# Altium integrated library Silicon Labs USB MCUs.IntLib: 49 symbols (part 2 of 3)
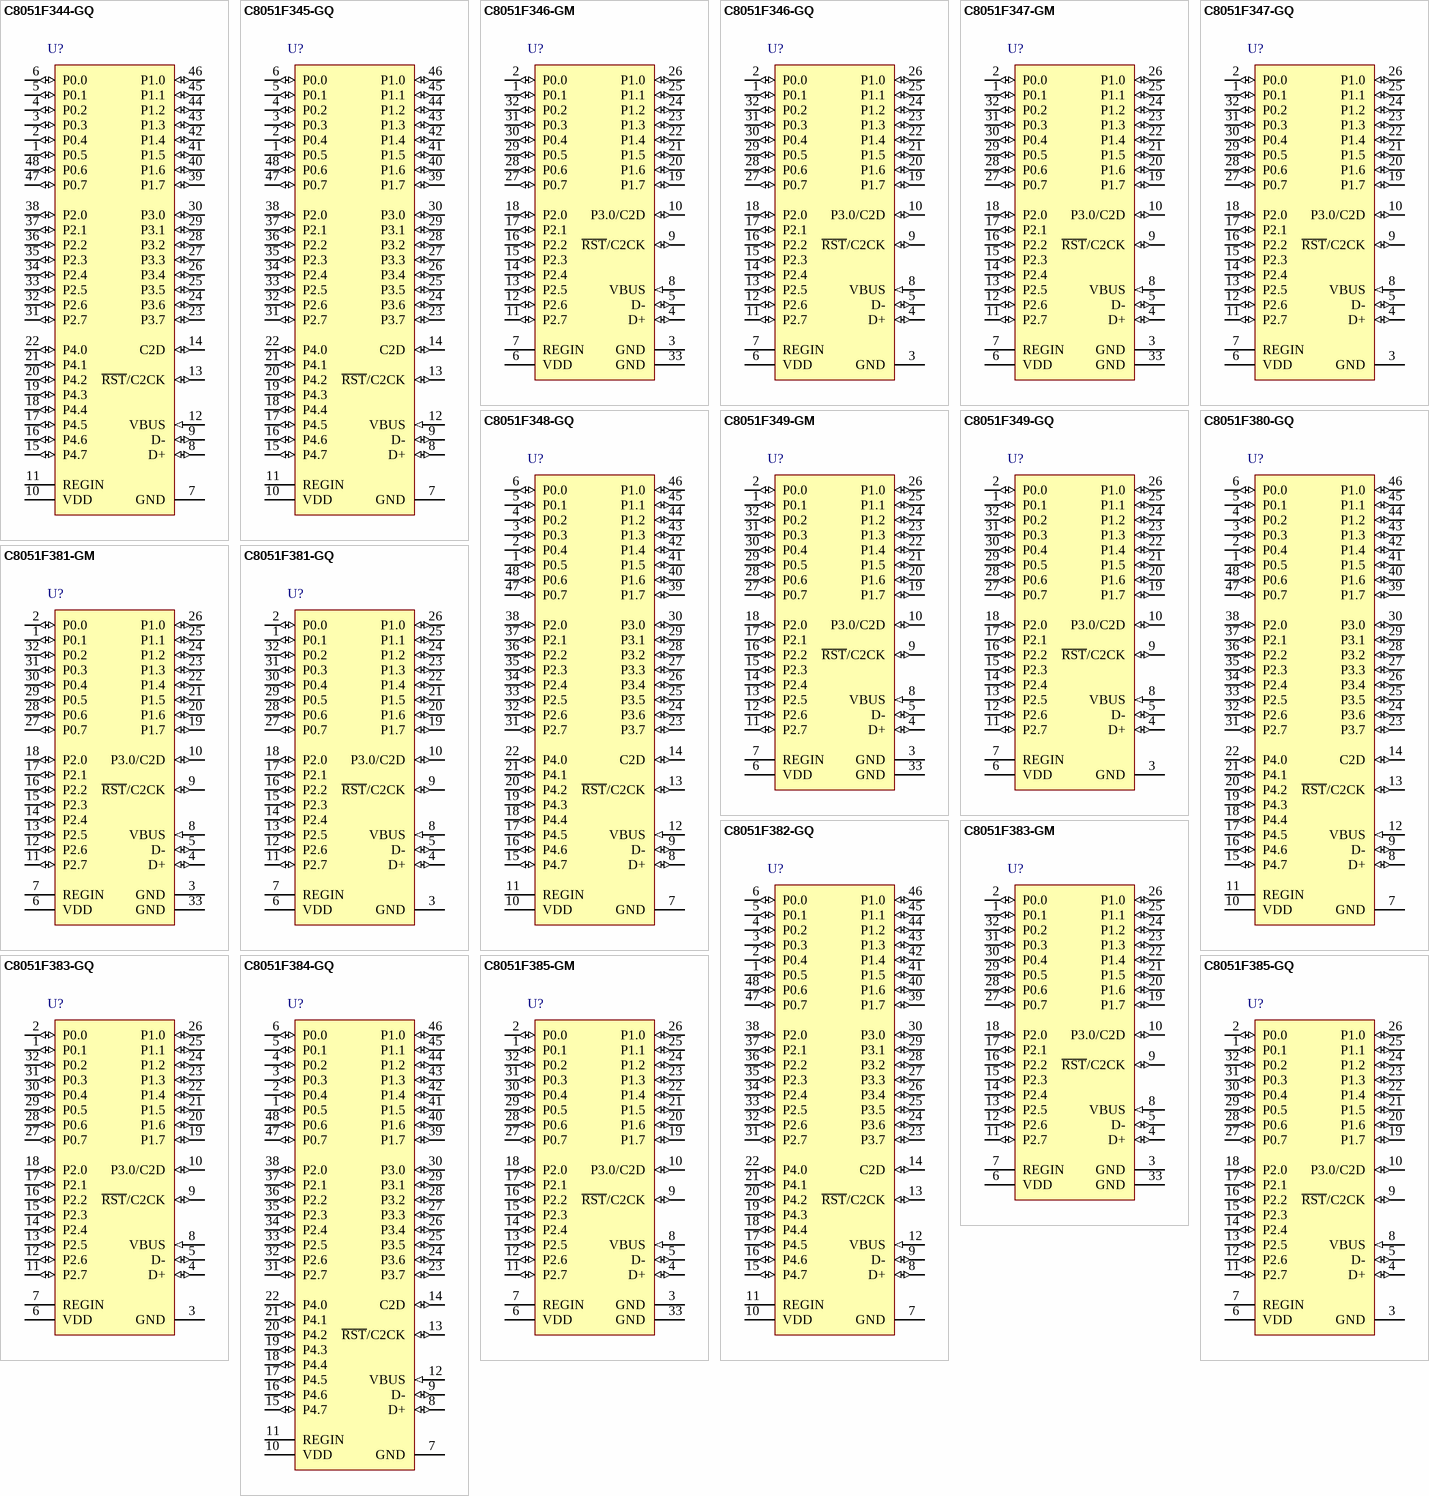
[diagram p3: symbols C8051F344-GQ to C8051F385-GQ]

## C8051F346-GM
designator U?
Full Speed USB Flash MCU Family, 25 MHz, 4.25 kB RAM, 64 kB Flash, -40 to 85 degC, 32-pin QFN; Manufacturer: Silicon Labs; PartNumber: C8051F346-GM; ADC 1: 10-bit, 21-ch., 200 ksps; AEC-Q100: FALSE; Comparators: 2; Debug Interface: C2; Dig I/O Pins: 25; Flash: 64 kB; Internal Osc. Accuracy: +/-0.25%; MCU Core: 8051; PCA Channels: 5; RAM: 4.25 kB; Temp Sensor: TRUE; Timers (16-bit): 4; Sub-Family: USB MCUs; DatasheetVersion: Rev. 1.4; PackageReference: QFN-32; PackageDescription: 32-Pin Quad-Flat No-Leads Package, Body 5 x 5 mm, Pitch 0.5 mm; Supplier 1: Digi-Key; Supplier Part Number 1: 336-1347-5-ND; Supplier 2: Mouser; Supplier Part Number 2: 634-C8051F346-GM; MHz: 25; Mounting Technology: Surface Mount; Code_JEDEC: MO-220; Code_IPC: J-STD-020; ComponentLink1Description: Manufacturer URL; ComponentLink1URL: http://www.silabs.com/; ComponentLink2Description: Datasheet; ComponentLink2URL: http://www.silabs.com/Support Documents/TechnicalDocs/C8051F34x.pdf; ComponentLink3Description: Package Specification; ComponentLink3URL: http://www.silabs.com/Support%20Documents/TechnicalDocs/C8051F50x-51x.pdf
footprint SLAB-QFN-32-3300x3300TP_N (QFN, 32-Leads, Body 5x5mm, Pitch 0.5mm, Thermal Pad 3.3x3.3mm, IPC Medium Density)
footprint SLAB-QFN-32-3300x3300TP_L (QFN, 32-Leads, Body 5x5mm, Pitch 0.5mm, Thermal Pad 3.3x3.3mm, IPC High Density)
footprint SLAB-QFN-32-3300x3300TP_M (QFN, 32-Leads, Body 5x5mm, Pitch 0.5mm, Thermal Pad 3.3x3.3mm, IPC Low Density)
pins: 1 P0.1 (io) "Port 0.1.", 2 P0.0 (io) "Port 0.0.", 3 GND (power) "Ground.", 4 D+ (io) "USB D+.", 5 D- (io) "USB D-", 6 VDD (power) "2.7-3.6 V Power Supply Voltage Input. 3.3 V Voltage Regulator Output.", 7 REGIN (power) "5 V Regulator Input. This pin is the input to the on-chip  voltage regulator.", 8 VBUS (in) "VBUS Sense Input. This pin should be connected to the VBUS signal of a USB network. A 5 V signal on this pin indicates a USB network connection.", 9 ~{RST}/C2CK (io), 10 P3.0/C2D (io), 11 P2.7 (io) "Port 2.7.", 12 P2.6 (io) "Port 2.6.", 13 P2.5 (io) "Port 2.5.", 14 P2.4 (io) "Port 2.4.", 15 P2.3 (io) "Port 2.3.", 16 P2.2 (io) "Port 2.2.", 17 P2.1 (io) "Port 2.1.", 18 P2.0 (io) "Port 2.0.", 19 P1.7 (io) "Port 1.7.", 20 P1.6 (io) "Port 1.6.", 21 P1.5 (io) "Port 1.5.", 22 P1.4 (io) "Port 1.4.", 23 P1.3 (io) "Port 1.3.", 24 P1.2 (io) "Port 1.2.", 25 P1.1 (io) "Port 1.1.", 26 P1.0 (io) "Port 1.0.", 27 P0.7 (io) "Port 0.7.", 28 P0.6 (io) "Port 0.6.", 29 P0.5 (io) "Port 0.5.", 30 P0.4 (io) "Port 0.4.", 31 P0.3 (io) "Port 0.3.", 32 P0.2 (io) "Port 0.2.", 33 GND (power)

## C8051F346-GQ
designator U?
Full Speed USB Flash MCU Family, 25 MHz, 4.25 kB RAM, 64 kB Flash, -40 to 85 degC, 32-pin QFP; Manufacturer: Silicon Labs; PartNumber: C8051F346-GQ; ADC 1: 10-bit, 21-ch., 200 ksps; AEC-Q100: FALSE; Comparators: 2; Debug Interface: C2; Dig I/O Pins: 25; Flash: 64 kB; Internal Osc. Accuracy: +/-0.25%; MCU Core: 8051; PCA Channels: 5; RAM: 4.25 kB; Temp Sensor: TRUE; Timers (16-bit): 4; Sub-Family: USB MCUs; DatasheetVersion: Rev. 1.4; PackageReference: LQFP-32; PackageDescription: 32-Pin Low-Profile Quad Flat Pack, Body 7 x 7 mm, Pitch 0.8 mm; Supplier 1: Digi-Key; Supplier Part Number 1: 336-1304-ND; Supplier 2: Farnell; Supplier Part Number 2: 1186936; Supplier 3: Newark; Supplier Part Number 3: 96K8399; Supplier 4: Mouser; Supplier Part Number 4: 634-C8051F346-GQ; MHz: 25; Mounting Technology: Surface Mount; Code_JEDEC: MS-026; Code_IPC: J-STD-020; ComponentLink1Description: Manufacturer URL; ComponentLink1URL: http://www.silabs.com/; ComponentLink2Description: Datasheet; ComponentLink2URL: http://www.silabs.com/Support Documents/TechnicalDocs/C8051F34x.pdf; ComponentLink3Description: Package Specification; ComponentLink3URL: http://www.silabs.com/Support%20Documents/TechnicalDocs/C8051F38x.pdf
footprint SLAB-LQFP-32_N (QFP, 32-Leads, Body 7x7mm, Pitch 0.8mm, IPC Medium Density)
footprint SLAB-LQFP-32_L (QFP, 32-Leads, Body 7x7mm, Pitch 0.8mm, IPC High Density)
footprint SLAB-LQFP-32_M (QFP, 32-Leads, Body 7x7mm, Pitch 0.8mm, IPC Low Density)
pins: 1 P0.1 (io) "Port 0.1", 2 P0.0 (io) "Port 0.0. See Section 15 for a complete description of Port 0", 3 GND (power) "Ground.", 4 D+ (io) "USB D+.", 5 D- (io) "USB D-.", 6 VDD (power) "2.7-3.6 V Power Supply Voltage Input. 3.3 V Voltage Regulator Output. See Section 8.", 7 REGIN (power) "5 V Regulator Input. This pin is the input to the on-chip voltage regulator.", 8 VBUS (in) "VBUS Sense Input. This pin should be connected to the VBUS signal of a USB network. A 5 V signal on this pin indicates a USB network connection.", 9 ~{RST}/C2CK (io), 10 P3.0/C2D (io), 11 P2.7 (io) "Port 2.7.", 12 P2.6 (io) "Port 2.6.", 13 P2.5 (io) "Port 2.5.", 14 P2.4 (io) "Port 2.4.", 15 P2.3 (io) "Port 2.3.", 16 P2.2 (io) "Port 2.2.", 17 P2.1 (io) "Port 2.1.", 18 P2.0 (io) "Port 2.0. See Section 15 for a complete description of Port 2.", 19 P1.7 (io) "Port 1.7.", 20 P1.6 (io) "Port 1.6.", 21 P1.5 (io) "Port 1.5.", 22 P1.4 (io) "Port 1.4.", 23 P1.3 (io) "Port 1.3.", 24 P1.2 (io) "Port 1.2.", 25 P1.1 (io) "Port 1.1.", 26 P1.0 (io) "Port 1.0. See Section 15 for a complete description of Port 3.", 27 P0.7 (io) "Port 0.7", 28 P0.6 (io) "Port 0.6", 29 P0.5 (io) "Port 0.5", 30 P0.4 (io) "Port 0.4", 31 P0.3 (io) "Port 0.3", 32 P0.2 (io) "Port 0.2"

## C8051F347-GM
designator U?
Full Speed USB Flash MCU Family, 25 MHz, 2.25 kB RAM, 32 kB Flash, -40 to 85 degC, 32-pin QFN; Manufacturer: Silicon Labs; PartNumber: C8051F347-GM; ADC 1: 10-bit, 21-ch., 200 ksps; AEC-Q100: FALSE; Comparators: 2; Debug Interface: C2; Dig I/O Pins: 25; Flash: 32 kB; Internal Osc. Accuracy: +/-0.25%; MCU Core: 8051; PCA Channels: 5; RAM: 2.25 kB; Temp Sensor: TRUE; Timers (16-bit): 4; Sub-Family: USB MCUs; DatasheetVersion: Rev. 1.4; PackageReference: QFN-32; PackageDescription: 32-Pin Quad-Flat No-Leads Package, Body 5 x 5 mm, Pitch 0.5 mm; Supplier 1: Digi-Key; Supplier Part Number 1: 336-1348-5-ND; Supplier 2: Mouser; Supplier Part Number 2: 634-C8051F347-GM; MHz: 25; Mounting Technology: Surface Mount; Code_JEDEC: MO-220; Code_IPC: J-STD-020; ComponentLink1Description: Manufacturer URL; ComponentLink1URL: http://www.silabs.com/; ComponentLink2Description: Datasheet; ComponentLink2URL: http://www.silabs.com/Support Documents/TechnicalDocs/C8051F34x.pdf; ComponentLink3Description: Package Specification; ComponentLink3URL: http://www.silabs.com/Support%20Documents/TechnicalDocs/C8051F50x-51x.pdf
footprint SLAB-QFN-32-3300x3300TP_N (QFN, 32-Leads, Body 5x5mm, Pitch 0.5mm, Thermal Pad 3.3x3.3mm, IPC Medium Density)
footprint SLAB-QFN-32-3300x3300TP_L (QFN, 32-Leads, Body 5x5mm, Pitch 0.5mm, Thermal Pad 3.3x3.3mm, IPC High Density)
footprint SLAB-QFN-32-3300x3300TP_M (QFN, 32-Leads, Body 5x5mm, Pitch 0.5mm, Thermal Pad 3.3x3.3mm, IPC Low Density)
pins: 1 P0.1 (io) "Port 0.1.", 2 P0.0 (io) "Port 0.0.", 3 GND (power) "Ground.", 4 D+ (io) "USB D+.", 5 D- (io) "USB D-", 6 VDD (power) "2.7-3.6 V Power Supply Voltage Input. 3.3 V Voltage Regulator Output.", 7 REGIN (power) "5 V Regulator Input. This pin is the input to the on-chip  voltage regulator.", 8 VBUS (in) "VBUS Sense Input. This pin should be connected to the VBUS signal of a USB network. A 5 V signal on this pin indicates a USB network connection.", 9 ~{RST}/C2CK (io), 10 P3.0/C2D (io), 11 P2.7 (io) "Port 2.7.", 12 P2.6 (io) "Port 2.6.", 13 P2.5 (io) "Port 2.5.", 14 P2.4 (io) "Port 2.4.", 15 P2.3 (io) "Port 2.3.", 16 P2.2 (io) "Port 2.2.", 17 P2.1 (io) "Port 2.1.", 18 P2.0 (io) "Port 2.0.", 19 P1.7 (io) "Port 1.7.", 20 P1.6 (io) "Port 1.6.", 21 P1.5 (io) "Port 1.5.", 22 P1.4 (io) "Port 1.4.", 23 P1.3 (io) "Port 1.3.", 24 P1.2 (io) "Port 1.2.", 25 P1.1 (io) "Port 1.1.", 26 P1.0 (io) "Port 1.0.", 27 P0.7 (io) "Port 0.7.", 28 P0.6 (io) "Port 0.6.", 29 P0.5 (io) "Port 0.5.", 30 P0.4 (io) "Port 0.4.", 31 P0.3 (io) "Port 0.3.", 32 P0.2 (io) "Port 0.2.", 33 GND (power)

## C8051F347-GQ
designator U?
Full Speed USB Flash MCU Family, 25 MHz, 2.25 kB RAM, 32 kB Flash, -40 to 85 degC, 32-pin QFP; Manufacturer: Silicon Labs; PartNumber: C8051F347-GQ; ADC 1: 10-bit, 21-ch., 200 ksps; AEC-Q100: FALSE; Comparators: 2; Debug Interface: C2; Dig I/O Pins: 25; Flash: 32 kB; Internal Osc. Accuracy: +/-0.25%; MCU Core: 8051; PCA Channels: 5; RAM: 2.25 kB; Temp Sensor: TRUE; Timers (16-bit): 4; Sub-Family: USB MCUs; DatasheetVersion: Rev. 1.4; PackageReference: LQFP-32; PackageDescription: 32-Pin Low-Profile Quad Flat Pack, Body 7 x 7 mm, Pitch 0.8 mm; Supplier 1: Digi-Key; Supplier Part Number 1: 336-1305-ND; Supplier 2: Farnell; Supplier Part Number 2: 1186937; Supplier 3: Mouser; Supplier Part Number 3: 634-C8051F347-GQ; MHz: 25; Mounting Technology: Surface Mount; Code_JEDEC: MS-026; Code_IPC: J-STD-020; ComponentLink1Description: Manufacturer URL; ComponentLink1URL: http://www.silabs.com/; ComponentLink2Description: Datasheet; ComponentLink2URL: http://www.silabs.com/Support Documents/TechnicalDocs/C8051F34x.pdf; ComponentLink3Description: Package Specification; ComponentLink3URL: http://www.silabs.com/Support%20Documents/TechnicalDocs/C8051F38x.pdf
footprint SLAB-LQFP-32_N (QFP, 32-Leads, Body 7x7mm, Pitch 0.8mm, IPC Medium Density)
footprint SLAB-LQFP-32_L (QFP, 32-Leads, Body 7x7mm, Pitch 0.8mm, IPC High Density)
footprint SLAB-LQFP-32_M (QFP, 32-Leads, Body 7x7mm, Pitch 0.8mm, IPC Low Density)
pins: 1 P0.1 (io) "Port 0.1", 2 P0.0 (io) "Port 0.0. See Section 15 for a complete description of Port 0", 3 GND (power) "Ground.", 4 D+ (io) "USB D+.", 5 D- (io) "USB D-.", 6 VDD (power) "2.7-3.6 V Power Supply Voltage Input. 3.3 V Voltage Regulator Output. See Section 8.", 7 REGIN (power) "5 V Regulator Input. This pin is the input to the on-chip voltage regulator.", 8 VBUS (in) "VBUS Sense Input. This pin should be connected to the VBUS signal of a USB network. A 5 V signal on this pin indicates a USB network connection.", 9 ~{RST}/C2CK (io), 10 P3.0/C2D (io), 11 P2.7 (io) "Port 2.7.", 12 P2.6 (io) "Port 2.6.", 13 P2.5 (io) "Port 2.5.", 14 P2.4 (io) "Port 2.4.", 15 P2.3 (io) "Port 2.3.", 16 P2.2 (io) "Port 2.2.", 17 P2.1 (io) "Port 2.1.", 18 P2.0 (io) "Port 2.0. See Section 15 for a complete description of Port 2.", 19 P1.7 (io) "Port 1.7.", 20 P1.6 (io) "Port 1.6.", 21 P1.5 (io) "Port 1.5.", 22 P1.4 (io) "Port 1.4.", 23 P1.3 (io) "Port 1.3.", 24 P1.2 (io) "Port 1.2.", 25 P1.1 (io) "Port 1.1.", 26 P1.0 (io) "Port 1.0. See Section 15 for a complete description of Port 3.", 27 P0.7 (io) "Port 0.7", 28 P0.6 (io) "Port 0.6", 29 P0.5 (io) "Port 0.5", 30 P0.4 (io) "Port 0.4", 31 P0.3 (io) "Port 0.3", 32 P0.2 (io) "Port 0.2"

## C8051F348-GQ
designator U?
Full Speed USB Flash MCU Family, 25 MHz, 2.25 kB RAM, 32 kB Flash, -40 to 85 degC, 48-pin QFP; Manufacturer: Silicon Labs; PartNumber: C8051F348-GQ; AEC-Q100: FALSE; Comparators: 2; Debug Interface: C2; Dig I/O Pins: 40; Flash: 32 kB; Internal Osc. Accuracy: +/-0.25%; MCU Core: 8051; MHz: 25; PCA Channels: 5; RAM: 2.25 kB; Timers (16-bit): 4; Sub-Family: USB MCUs; DatasheetVersion: Rev. 1.4; PackageReference: TQFP-48; PackageDescription: 48-pin TQFP, Body 7 x 7 mm, Pitch 0.5 mm; Supplier 1: Digi-Key; Supplier Part Number 1: 336-1508-ND; Supplier 2: Mouser; Supplier Part Number 2: 634-C8051F348-GQ; Temp Sensor: FALSE; Mounting Technology: Surface Mount; Code_JEDEC: MS-026; Code_IPC: J-STD-020; ComponentLink1Description: Manufacturer URL; ComponentLink1URL: http://www.silabs.com/; ComponentLink2Description: Datasheet; ComponentLink2URL: http://www.silabs.com/Support Documents/TechnicalDocs/C8051F34x.pdf; ComponentLink3Description: Package Specification; ComponentLink3URL: http://www.silabs.com/Support%20Documents/TechnicalDocs/CP2200.pdf
footprint SLAB-TQFP-48_N (QFP, 48-Leads, Body 7x7mm, Pitch 0.5mm, IPC Medium Density)
footprint SLAB-TQFP-48_L (QFP, 48-Leads, Body 7x7mm, Pitch 0.5mm, IPC High Density)
footprint SLAB-TQFP-48_M (QFP, 48-Leads, Body 7x7mm, Pitch 0.5mm, IPC Low Density)
pins: 1 P0.5 (io) "Port 0.5.", 2 P0.4 (io) "Port 0.4.", 3 P0.3 (io) "Port 0.3.", 4 P0.2 (io) "Port 0.2.", 5 P0.1 (io) "Port 0.1", 6 P0.0 (io) "Port 0.0.", 7 GND (power) "Ground.", 8 D+ (io) "USB D+.", 9 D- (io) "USB D-.", 10 VDD (power) "2.7-3.6 V Power Supply Voltage Input. 3.3 V Voltage Regulator Output.", 11 REGIN (power) "5 V Regulator Input. This pin is the input to the on-chip voltage regulator.", 12 VBUS (in) "VBUS Sense Input. This pin should be connected to the VBUS signal of a USB network. A 5 V signal on this pin indicates a USB network connection.", 13 ~{RST}/C2CK (io), 14 C2D (io) "Bi-directional data signal for the C2 Debug Interface.", 15 P4.7 (io) "Port 4.7.", 16 P4.6 (io) "Port 4.6.", 17 P4.5 (io) "Port 4.5.", 18 P4.4 (io) "Port 4.4.", 19 P4.3 (io) "Port 4.3.", 20 P4.2 (io) "Port 4.2.", 21 P4.1 (io) "Port 4.1.", 22 P4.0 (io) "Port 4.0.", 23 P3.7 (io) "Port 3.7.", 24 P3.6 (io) "Port 3.6.", 25 P3.5 (io) "Port 3.5.", 26 P3.4 (io) "Port 3.4.", 27 P3.3 (io) "Port 3.3.", 28 P3.2 (io) "Port 3.2.", 29 P3.1 (io) "Port 3.1.", 30 P3.0 (io) "Port 3.0.", 31 P2.7 (io) "Port 2.7.", 32 P2.6 (io) "Port 2.6.", 33 P2.5 (io) "Port 2.5.", 34 P2.4 (io) "Port 2.4.", 35 P2.3 (io) "Port 2.3.", 36 P2.2 (io) "Port 2.2.", 37 P2.1 (io) "Port 2.1.", 38 P2.0 (io) "Port 2.0.", 39 P1.7 (io) "Port 1.7.", 40 P1.6 (io) "Port 1.6.", 41 P1.5 (io) "Port 1.5.", 42 P1.4 (io) "Port 1.4.", 43 P1.3 (io) "Port 1.3.", 44 P1.2 (io) "Port 1.2.", 45 P1.1 (io) "Port 1.1.", 46 P1.0 (io) "Port 1.0.", 47 P0.7 (io) "Port 0.7.", 48 P0.6 (io) "Port 0.6."

## C8051F349-GM
designator U?
Full Speed USB Flash MCU Family, 25 MHz, 2.25 kB RAM, 32 kB Flash, -40 to 85 degC, 32-pin QFN; Manufacturer: Silicon Labs; PartNumber: C8051F349-GM; AEC-Q100: FALSE; Comparators: 2; Debug Interface: C2; Dig I/O Pins: 25; Flash: 32 kB; Internal Osc. Accuracy: +/-0.25%; MCU Core: 8051; PCA Channels: 5; RAM: 2.25 kB; Timers (16-bit): 4; Sub-Family: USB MCUs; DatasheetVersion: Rev. 1.4; PackageReference: QFN-32; PackageDescription: 32-Pin Quad-Flat No-Leads Package, Body 5 x 5 mm, Pitch 0.5 mm; Supplier 1: Digi-Key; Supplier Part Number 1: 336-1349-5-ND; Supplier 2: Mouser; Supplier Part Number 2: 634-C8051F349-GM; MHz: 25; Temp Sensor: FALSE; Mounting Technology: Surface Mount; Code_JEDEC: MO-220; Code_IPC: J-STD-020; ComponentLink1Description: Manufacturer URL; ComponentLink1URL: http://www.silabs.com/; ComponentLink2Description: Datasheet; ComponentLink2URL: http://www.silabs.com/Support Documents/TechnicalDocs/C8051F34x.pdf; ComponentLink3Description: Package Specification; ComponentLink3URL: http://www.silabs.com/Support%20Documents/TechnicalDocs/C8051F50x-51x.pdf
footprint SLAB-QFN-32-3300x3300TP_N (QFN, 32-Leads, Body 5x5mm, Pitch 0.5mm, Thermal Pad 3.3x3.3mm, IPC Medium Density)
footprint SLAB-QFN-32-3300x3300TP_L (QFN, 32-Leads, Body 5x5mm, Pitch 0.5mm, Thermal Pad 3.3x3.3mm, IPC High Density)
footprint SLAB-QFN-32-3300x3300TP_M (QFN, 32-Leads, Body 5x5mm, Pitch 0.5mm, Thermal Pad 3.3x3.3mm, IPC Low Density)
pins: 1 P0.1 (io) "Port 0.1.", 2 P0.0 (io) "Port 0.0.", 3 GND (power) "Ground.", 4 D+ (io) "USB D+.", 5 D- (io) "USB D-", 6 VDD (power) "2.7-3.6 V Power Supply Voltage Input. 3.3 V Voltage Regulator Output.", 7 REGIN (power) "5 V Regulator Input. This pin is the input to the on-chip  voltage regulator.", 8 VBUS (in) "VBUS Sense Input. This pin should be connected to the VBUS signal of a USB network. A 5 V signal on this pin indicates a USB network connection.", 9 ~{RST}/C2CK (io), 10 P3.0/C2D (io), 11 P2.7 (io) "Port 2.7.", 12 P2.6 (io) "Port 2.6.", 13 P2.5 (io) "Port 2.5.", 14 P2.4 (io) "Port 2.4.", 15 P2.3 (io) "Port 2.3.", 16 P2.2 (io) "Port 2.2.", 17 P2.1 (io) "Port 2.1.", 18 P2.0 (io) "Port 2.0.", 19 P1.7 (io) "Port 1.7.", 20 P1.6 (io) "Port 1.6.", 21 P1.5 (io) "Port 1.5.", 22 P1.4 (io) "Port 1.4.", 23 P1.3 (io) "Port 1.3.", 24 P1.2 (io) "Port 1.2.", 25 P1.1 (io) "Port 1.1.", 26 P1.0 (io) "Port 1.0.", 27 P0.7 (io) "Port 0.7.", 28 P0.6 (io) "Port 0.6.", 29 P0.5 (io) "Port 0.5.", 30 P0.4 (io) "Port 0.4.", 31 P0.3 (io) "Port 0.3.", 32 P0.2 (io) "Port 0.2.", 33 GND (power)

## C8051F349-GQ
designator U?
Full Speed USB Flash MCU Family, 25 MHz, 2.25 kB RAM, 32 kB Flash, -40 to 85 degC, 32-pin QFP; Manufacturer: Silicon Labs; PartNumber: C8051F349-GQ; AEC-Q100: FALSE; Comparators: 2; Debug Interface: C2; Dig I/O Pins: 25; Flash: 32 kB; Internal Osc. Accuracy: +/-0.25%; MCU Core: 8051; PCA Channels: 5; RAM: 2.25 kB; Timers (16-bit): 4; Sub-Family: USB MCUs; DatasheetVersion: Rev. 1.4; PackageReference: LQFP-32; PackageDescription: 32-Pin Low-Profile Quad Flat Pack, Body 7 x 7 mm, Pitch 0.8 mm; Supplier 1: Digi-Key; Supplier Part Number 1: 336-1509-ND; Supplier 2: Mouser; Supplier Part Number 2: 634-C8051F349-GQ; MHz: 25; Temp Sensor: FALSE; Mounting Technology: Surface Mount; Code_JEDEC: MS-026; Code_IPC: J-STD-020; ComponentLink1Description: Manufacturer URL; ComponentLink1URL: http://www.silabs.com/; ComponentLink2Description: Datasheet; ComponentLink2URL: http://www.silabs.com/Support Documents/TechnicalDocs/C8051F34x.pdf; ComponentLink3Description: Package Specification; ComponentLink3URL: http://www.silabs.com/Support%20Documents/TechnicalDocs/C8051F38x.pdf
footprint SLAB-LQFP-32_N (QFP, 32-Leads, Body 7x7mm, Pitch 0.8mm, IPC Medium Density)
footprint SLAB-LQFP-32_L (QFP, 32-Leads, Body 7x7mm, Pitch 0.8mm, IPC High Density)
footprint SLAB-LQFP-32_M (QFP, 32-Leads, Body 7x7mm, Pitch 0.8mm, IPC Low Density)
pins: 1 P0.1 (io) "Port 0.1", 2 P0.0 (io) "Port 0.0. See Section 15 for a complete description of Port 0", 3 GND (power) "Ground.", 4 D+ (io) "USB D+.", 5 D- (io) "USB D-.", 6 VDD (power) "2.7-3.6 V Power Supply Voltage Input. 3.3 V Voltage Regulator Output. See Section 8.", 7 REGIN (power) "5 V Regulator Input. This pin is the input to the on-chip voltage regulator.", 8 VBUS (in) "VBUS Sense Input. This pin should be connected to the VBUS signal of a USB network. A 5 V signal on this pin indicates a USB network connection.", 9 ~{RST}/C2CK (io), 10 P3.0/C2D (io), 11 P2.7 (io) "Port 2.7.", 12 P2.6 (io) "Port 2.6.", 13 P2.5 (io) "Port 2.5.", 14 P2.4 (io) "Port 2.4.", 15 P2.3 (io) "Port 2.3.", 16 P2.2 (io) "Port 2.2.", 17 P2.1 (io) "Port 2.1.", 18 P2.0 (io) "Port 2.0. See Section 15 for a complete description of Port 2.", 19 P1.7 (io) "Port 1.7.", 20 P1.6 (io) "Port 1.6.", 21 P1.5 (io) "Port 1.5.", 22 P1.4 (io) "Port 1.4.", 23 P1.3 (io) "Port 1.3.", 24 P1.2 (io) "Port 1.2.", 25 P1.1 (io) "Port 1.1.", 26 P1.0 (io) "Port 1.0. See Section 15 for a complete description of Port 3.", 27 P0.7 (io) "Port 0.7", 28 P0.6 (io) "Port 0.6", 29 P0.5 (io) "Port 0.5", 30 P0.4 (io) "Port 0.4", 31 P0.3 (io) "Port 0.3", 32 P0.2 (io) "Port 0.2"

## C8051F380-GQ
designator U?
Full Speed USB Flash MCU Family, 48 MHz, 4.25 kB RAM, 64 kB Flash, -40 to 85 degC, 48-pin QFP; Manufacturer: Silicon Labs; PartNumber: C8051F380-GQ; ADC 1: 10-bit, 32-ch., 500 ksps; AEC-Q100: FALSE; Comparators: 2; Debug Interface: C2; Dig I/O Pins: 40; Flash: 64 kB; Internal Osc. Accuracy: +/-0.25%; MCU Core: 8051; MHz: 48; PCA Channels: 5; RAM: 4.25 KB; Temp Sensor: TRUE; Timers (16-bit): 6; Sub-Family: USB MCUs; DatasheetVersion: Rev. 1.3; PackageReference: TQFP-48; PackageDescription: 48-pin TQFP, Body 7 x 7 mm, Pitch 0.5 mm; Supplier 1: Digi-Key; Supplier Part Number 1: 336-2021-ND; Supplier 2: Mouser; Supplier Part Number 2: 634-C8051F380-GQ; Mounting Technology: Surface Mount; Code_JEDEC: MS-026; Code_IPC: J-STD-020; ComponentLink1Description: Manufacturer URL; ComponentLink1URL: http://www.silabs.com/; ComponentLink2Description: Datasheet; ComponentLink2URL: http://www.silabs.com/Support Documents/TechnicalDocs/C8051F38x.pdf; ComponentLink3Description: Package Specification; ComponentLink3URL: http://www.silabs.com/Support%20Documents/TechnicalDocs/CP2200.pdf
footprint SLAB-TQFP-48_N (QFP, 48-Leads, Body 7x7mm, Pitch 0.5mm, IPC Medium Density)
footprint SLAB-TQFP-48_L (QFP, 48-Leads, Body 7x7mm, Pitch 0.5mm, IPC High Density)
footprint SLAB-TQFP-48_M (QFP, 48-Leads, Body 7x7mm, Pitch 0.5mm, IPC Low Density)
pins: 1 P0.5 (io) "Port 0.5.", 2 P0.4 (io) "Port 0.4.", 3 P0.3 (io) "Port 0.3.", 4 P0.2 (io) "Port 0.2.", 5 P0.1 (io) "Port 0.1", 6 P0.0 (io) "Port 0.0.", 7 GND (power) "Ground.", 8 D+ (io) "USB D+.", 9 D- (io) "USB D-.", 10 VDD (power) "2.7-3.6 V Power Supply Voltage Input. 3.3 V Voltage Regulator Output.", 11 REGIN (power) "5 V Regulator Input. This pin is the input to the on-chip voltage regulator.", 12 VBUS (in) "VBUS Sense Input. This pin should be connected to the VBUS signal of a USB network. A 5 V signal on this pin indicates a USB network connection.", 13 ~{RST}/C2CK (io), 14 C2D (io) "Bi-directional data signal for the C2 Debug Interface.", 15 P4.7 (io) "Port 4.7.", 16 P4.6 (io) "Port 4.6.", 17 P4.5 (io) "Port 4.5.", 18 P4.4 (io) "Port 4.4.", 19 P4.3 (io) "Port 4.3.", 20 P4.2 (io) "Port 4.2.", 21 P4.1 (io) "Port 4.1.", 22 P4.0 (io) "Port 4.0.", 23 P3.7 (io) "Port 3.7.", 24 P3.6 (io) "Port 3.6.", 25 P3.5 (io) "Port 3.5.", 26 P3.4 (io) "Port 3.4.", 27 P3.3 (io) "Port 3.3.", 28 P3.2 (io) "Port 3.2.", 29 P3.1 (io) "Port 3.1.", 30 P3.0 (io) "Port 3.0.", 31 P2.7 (io) "Port 2.7.", 32 P2.6 (io) "Port 2.6.", 33 P2.5 (io) "Port 2.5.", 34 P2.4 (io) "Port 2.4.", 35 P2.3 (io) "Port 2.3.", 36 P2.2 (io) "Port 2.2.", 37 P2.1 (io) "Port 2.1.", 38 P2.0 (io) "Port 2.0.", 39 P1.7 (io) "Port 1.7.", 40 P1.6 (io) "Port 1.6.", 41 P1.5 (io) "Port 1.5.", 42 P1.4 (io) "Port 1.4.", 43 P1.3 (io) "Port 1.3.", 44 P1.2 (io) "Port 1.2.", 45 P1.1 (io) "Port 1.1.", 46 P1.0 (io) "Port 1.0.", 47 P0.7 (io) "Port 0.7.", 48 P0.6 (io) "Port 0.6."

## C8051F381-GM
designator U?
Full Speed USB Flash MCU Family, 48 MHz, 4.25 kB RAM, 64 kB Flash, -40 to 85 degC, 32-pin QFN; Manufacturer: Silicon Labs; PartNumber: C8051F381-GM; ADC 1: 10-bit, 21-ch., 500 ksps; AEC-Q100: FALSE; Comparators: 2; Debug Interface: C2; Dig I/O Pins: 25; Flash: 64 kB; Internal Osc. Accuracy: +/-0.25%; MCU Core: 8051; MHz: 48; PCA Channels: 5; RAM: 4.25 KB; Temp Sensor: TRUE; Timers (16-bit): 6; Sub-Family: USB MCUs; DatasheetVersion: Rev. 1.3; PackageReference: QFN-32; PackageDescription: 32-Pin Quad-Flat No-Leads Package, Body 5 x 5 mm, Pitch 0.5 mm; Supplier 1: Digi-Key; Supplier Part Number 1: 336-2022-ND; Supplier 2: Mouser; Supplier Part Number 2: 634-C8051F381-GM; Mounting Technology: Surface Mount; Code_JEDEC: MO-220; Code_IPC: J-STD-020; ComponentLink1Description: Manufacturer URL; ComponentLink1URL: http://www.silabs.com/; ComponentLink2Description: Datasheet; ComponentLink2URL: http://www.silabs.com/Support Documents/TechnicalDocs/C8051F38x.pdf; ComponentLink3Description: Package Specification; ComponentLink3URL: http://www.silabs.com/Support%20Documents/TechnicalDocs/C8051F38x.pdf
footprint SLAB-QFN-32-3300x3300TP_A_N (QFN, 32-Leads, Body 5x5mm, Pitch 0.5mm, Thermal Pad 3.3x3.3mm, IPC Medium Density)
footprint SLAB-QFN-32-3300x3300TP_A_L (QFN, 32-Leads, Body 5x5mm, Pitch 0.5mm, Thermal Pad 3.3x3.3mm, IPC High Density)
footprint SLAB-QFN-32-3300x3300TP_A_M (QFN, 32-Leads, Body 5x5mm, Pitch 0.5mm, Thermal Pad 3.3x3.3mm, IPC Low Density)
pins: 1 P0.1 (io) "Port 0.1.", 2 P0.0 (io) "Port 0.0.", 3 GND (power) "Ground.", 4 D+ (io) "USB D+.", 5 D- (io) "USB D-", 6 VDD (power) "2.7-3.6 V Power Supply Voltage Input. 3.3 V Voltage Regulator Output.", 7 REGIN (power) "5 V Regulator Input. This pin is the input to the on-chip  voltage regulator.", 8 VBUS (in) "VBUS Sense Input. This pin should be connected to the VBUS signal of a USB network. A 5 V signal on this pin indicates a USB network connection.", 9 ~{RST}/C2CK (io), 10 P3.0/C2D (io), 11 P2.7 (io) "Port 2.7.", 12 P2.6 (io) "Port 2.6.", 13 P2.5 (io) "Port 2.5.", 14 P2.4 (io) "Port 2.4.", 15 P2.3 (io) "Port 2.3.", 16 P2.2 (io) "Port 2.2.", 17 P2.1 (io) "Port 2.1.", 18 P2.0 (io) "Port 2.0.", 19 P1.7 (io) "Port 1.7.", 20 P1.6 (io) "Port 1.6.", 21 P1.5 (io) "Port 1.5.", 22 P1.4 (io) "Port 1.4.", 23 P1.3 (io) "Port 1.3.", 24 P1.2 (io) "Port 1.2.", 25 P1.1 (io) "Port 1.1.", 26 P1.0 (io) "Port 1.0.", 27 P0.7 (io) "Port 0.7.", 28 P0.6 (io) "Port 0.6.", 29 P0.5 (io) "Port 0.5.", 30 P0.4 (io) "Port 0.4.", 31 P0.3 (io) "Port 0.3.", 32 P0.2 (io) "Port 0.2.", 33 GND (power)

## C8051F381-GQ
designator U?
Full Speed USB Flash MCU Family, 48 MHz, 4.25 kB RAM, 64 kB Flash, -40 to 85 degC, 32-pin QFN; Manufacturer: Silicon Labs; PartNumber: C8051F381-GQ; ADC 1: 10-bit, 21-ch., 500 ksps; AEC-Q100: FALSE; Comparators: 2; Debug Interface: C2; Dig I/O Pins: 25; Flash: 64 kB; Internal Osc. Accuracy: +/-0.25%; MCU Core: 8051; MHz: 48; PCA Channels: 5; RAM: 4.25 KB; Temp Sensor: TRUE; Timers (16-bit): 6; Sub-Family: USB MCUs; DatasheetVersion: Rev. 1.3; PackageReference: LQFP-32; PackageDescription: 32-Pin Low-Profile Quad Flat Pack, Body 7 x 7 mm, Pitch 0.8 mm; Supplier 1: Digi-Key; Supplier Part Number 1: 336-2023-ND; Supplier 2: Mouser; Supplier Part Number 2: 634-C8051F381-GQ; Mounting Technology: Surface Mount; Code_JEDEC: MS-026; Code_IPC: J-STD-020; ComponentLink1Description: Manufacturer URL; ComponentLink1URL: http://www.silabs.com/; ComponentLink2Description: Datasheet; ComponentLink2URL: http://www.silabs.com/Support Documents/TechnicalDocs/C8051F38x.pdf; ComponentLink3Description: Package Specification; ComponentLink3URL: http://www.silabs.com/Support%20Documents/TechnicalDocs/C8051F38x.pdf
footprint SLAB-LQFP-32_N (QFP, 32-Leads, Body 7x7mm, Pitch 0.8mm, IPC Medium Density)
footprint SLAB-LQFP-32_L (QFP, 32-Leads, Body 7x7mm, Pitch 0.8mm, IPC High Density)
footprint SLAB-LQFP-32_M (QFP, 32-Leads, Body 7x7mm, Pitch 0.8mm, IPC Low Density)
pins: 1 P0.1 (io) "Port 0.1.", 2 P0.0 (io) "Port 0.0. See Section 20 for a complete description of Port 0.", 3 GND (power) "Ground.", 4 D+ (io) "USB D+.", 5 D- (io) "USB D-", 6 VDD (power) "2.7-3.6 V Core Supply Voltage Input. 3.3 V Voltage Regulator Output. See Section 5.", 7 REGIN (power) "5 V Regulator Input. This pin is the input to the on-chip  voltage regulator.", 8 VBUS (in) "VBUS Sense Input. This pin should be connected to the VBUS signal of a USB network. A 5 V signal on this pin indicates a USB network connection.", 9 ~{RST}/C2CK (io), 10 P3.0/C2D (io), 11 P2.7 (io) "Port 2.7.", 12 P2.6 (io) "Port 2.6.", 13 P2.5 (io) "Port 2.5.", 14 P2.4 (io) "Port 2.4.", 15 P2.3 (io) "Port 2.3.", 16 P2.2 (io) "Port 2.2.", 17 P2.1 (io) "Port 2.1.", 18 P2.0 (io) "Port 2.0. See Section 20 for a complete description of Port 2.", 19 P1.7 (io) "Port 1.7.", 20 P1.6 (io) "Port 1.6.", 21 P1.5 (io) "Port 1.5.", 22 P1.4 (io) "Port 1.4.", 23 P1.3 (io) "Port 1.3.", 24 P1.2 (io) "Port 1.2.", 25 P1.1 (io) "Port 1.1.", 26 P1.0 (io) "Port 1.0. See Section 20 for a complete description of Port 1.", 27 P0.7 (io) "Port 0.7.", 28 P0.6 (io) "Port 0.6.", 29 P0.5 (io) "Port 0.5.", 30 P0.4 (io) "Port 0.4.", 31 P0.3 (io) "Port 0.3.", 32 P0.2 (io) "Port 0.2."

## C8051F382-GQ
designator U?
Full Speed USB Flash MCU Family, 48 MHz, 2.25 kB RAM, 32 kB Flash, -40 to 85 degC, 48-pin QFP; Manufacturer: Silicon Labs; PartNumber: C8051F382-GQ; ADC 1: 10-bit, 32-ch., 500 ksps; AEC-Q100: FALSE; Comparators: 2; Debug Interface: C2; Dig I/O Pins: 40; Flash: 32 kB; Internal Osc. Accuracy: +/-0.25%; MCU Core: 8051; MHz: 48; PCA Channels: 5; RAM: 2.25 KB; Temp Sensor: TRUE; Timers (16-bit): 6; Sub-Family: USB MCUs; DatasheetVersion: Rev. 1.3; PackageReference: TQFP-48; PackageDescription: 48-pin TQFP, Body 7 x 7 mm, Pitch 0.5 mm; Supplier 1: Digi-Key; Supplier Part Number 1: 336-2024-ND; Supplier 2: Mouser; Supplier Part Number 2: 634-C8051F382-GQ; Mounting Technology: Surface Mount; Code_JEDEC: MS-026; Code_IPC: J-STD-020; ComponentLink1Description: Manufacturer URL; ComponentLink1URL: http://www.silabs.com/; ComponentLink2Description: Datasheet; ComponentLink2URL: http://www.silabs.com/Support Documents/TechnicalDocs/C8051F38x.pdf; ComponentLink3Description: Package Specification; ComponentLink3URL: http://www.silabs.com/Support%20Documents/TechnicalDocs/CP2200.pdf
footprint SLAB-TQFP-48_N (QFP, 48-Leads, Body 7x7mm, Pitch 0.5mm, IPC Medium Density)
footprint SLAB-TQFP-48_L (QFP, 48-Leads, Body 7x7mm, Pitch 0.5mm, IPC High Density)
footprint SLAB-TQFP-48_M (QFP, 48-Leads, Body 7x7mm, Pitch 0.5mm, IPC Low Density)
pins: 1 P0.5 (io) "Port 0.5.", 2 P0.4 (io) "Port 0.4.", 3 P0.3 (io) "Port 0.3.", 4 P0.2 (io) "Port 0.2.", 5 P0.1 (io) "Port 0.1", 6 P0.0 (io) "Port 0.0.", 7 GND (power) "Ground.", 8 D+ (io) "USB D+.", 9 D- (io) "USB D-.", 10 VDD (power) "2.7-3.6 V Power Supply Voltage Input. 3.3 V Voltage Regulator Output.", 11 REGIN (power) "5 V Regulator Input. This pin is the input to the on-chip voltage regulator.", 12 VBUS (in) "VBUS Sense Input. This pin should be connected to the VBUS signal of a USB network. A 5 V signal on this pin indicates a USB network connection.", 13 ~{RST}/C2CK (io), 14 C2D (io) "Bi-directional data signal for the C2 Debug Interface.", 15 P4.7 (io) "Port 4.7.", 16 P4.6 (io) "Port 4.6.", 17 P4.5 (io) "Port 4.5.", 18 P4.4 (io) "Port 4.4.", 19 P4.3 (io) "Port 4.3.", 20 P4.2 (io) "Port 4.2.", 21 P4.1 (io) "Port 4.1.", 22 P4.0 (io) "Port 4.0.", 23 P3.7 (io) "Port 3.7.", 24 P3.6 (io) "Port 3.6.", 25 P3.5 (io) "Port 3.5.", 26 P3.4 (io) "Port 3.4.", 27 P3.3 (io) "Port 3.3.", 28 P3.2 (io) "Port 3.2.", 29 P3.1 (io) "Port 3.1.", 30 P3.0 (io) "Port 3.0.", 31 P2.7 (io) "Port 2.7.", 32 P2.6 (io) "Port 2.6.", 33 P2.5 (io) "Port 2.5.", 34 P2.4 (io) "Port 2.4.", 35 P2.3 (io) "Port 2.3.", 36 P2.2 (io) "Port 2.2.", 37 P2.1 (io) "Port 2.1.", 38 P2.0 (io) "Port 2.0.", 39 P1.7 (io) "Port 1.7.", 40 P1.6 (io) "Port 1.6.", 41 P1.5 (io) "Port 1.5.", 42 P1.4 (io) "Port 1.4.", 43 P1.3 (io) "Port 1.3.", 44 P1.2 (io) "Port 1.2.", 45 P1.1 (io) "Port 1.1.", 46 P1.0 (io) "Port 1.0.", 47 P0.7 (io) "Port 0.7.", 48 P0.6 (io) "Port 0.6."

## C8051F383-GM
designator U?
Full Speed USB Flash MCU Family, 48 MHz, 2.25 kB RAM, 32 kB Flash, -40 to 85 degC, 32-pin QFN; Manufacturer: Silicon Labs; PartNumber: C8051F383-GM; ADC 1: 10-bit, 32-ch., 500 ksps; AEC-Q100: FALSE; Comparators: 2; Debug Interface: C2; Dig I/O Pins: 25; Flash: 32 kB; Internal Osc. Accuracy: +/-0.25%; MCU Core: 8051; MHz: 48; PCA Channels: 5; RAM: 2.25 KB; Temp Sensor: TRUE; Timers (16-bit): 6; Sub-Family: USB MCUs; DatasheetVersion: Rev. 1.3; PackageReference: QFN-32; PackageDescription: 32-Pin Quad-Flat No-Leads Package, Body 5 x 5 mm, Pitch 0.5 mm; Supplier 1: Digi-Key; Supplier Part Number 1: 336-2025-ND; Supplier 2: Mouser; Supplier Part Number 2: 634-C8051F383-GM; Mounting Technology: Surface Mount; Code_JEDEC: MO-220; Code_IPC: J-STD-020; ComponentLink1Description: Manufacturer URL; ComponentLink1URL: http://www.silabs.com/; ComponentLink2Description: Datasheet; ComponentLink2URL: http://www.silabs.com/Support Documents/TechnicalDocs/C8051F38x.pdf; ComponentLink3Description: Package Specification; ComponentLink3URL: http://www.silabs.com/Support%20Documents/TechnicalDocs/C8051F38x.pdf
footprint SLAB-QFN-32-3300x3300TP_A_N (QFN, 32-Leads, Body 5x5mm, Pitch 0.5mm, Thermal Pad 3.3x3.3mm, IPC Medium Density)
footprint SLAB-QFN-32-3300x3300TP_A_L (QFN, 32-Leads, Body 5x5mm, Pitch 0.5mm, Thermal Pad 3.3x3.3mm, IPC High Density)
footprint SLAB-QFN-32-3300x3300TP_A_M (QFN, 32-Leads, Body 5x5mm, Pitch 0.5mm, Thermal Pad 3.3x3.3mm, IPC Low Density)
pins: 1 P0.1 (io) "Port 0.1.", 2 P0.0 (io) "Port 0.0.", 3 GND (power) "Ground.", 4 D+ (io) "USB D+.", 5 D- (io) "USB D-", 6 VDD (power) "2.7-3.6 V Power Supply Voltage Input. 3.3 V Voltage Regulator Output.", 7 REGIN (power) "5 V Regulator Input. This pin is the input to the on-chip  voltage regulator.", 8 VBUS (in) "VBUS Sense Input. This pin should be connected to the VBUS signal of a USB network. A 5 V signal on this pin indicates a USB network connection.", 9 ~{RST}/C2CK (io), 10 P3.0/C2D (io), 11 P2.7 (io) "Port 2.7.", 12 P2.6 (io) "Port 2.6.", 13 P2.5 (io) "Port 2.5.", 14 P2.4 (io) "Port 2.4.", 15 P2.3 (io) "Port 2.3.", 16 P2.2 (io) "Port 2.2.", 17 P2.1 (io) "Port 2.1.", 18 P2.0 (io) "Port 2.0.", 19 P1.7 (io) "Port 1.7.", 20 P1.6 (io) "Port 1.6.", 21 P1.5 (io) "Port 1.5.", 22 P1.4 (io) "Port 1.4.", 23 P1.3 (io) "Port 1.3.", 24 P1.2 (io) "Port 1.2.", 25 P1.1 (io) "Port 1.1.", 26 P1.0 (io) "Port 1.0.", 27 P0.7 (io) "Port 0.7.", 28 P0.6 (io) "Port 0.6.", 29 P0.5 (io) "Port 0.5.", 30 P0.4 (io) "Port 0.4.", 31 P0.3 (io) "Port 0.3.", 32 P0.2 (io) "Port 0.2.", 33 GND (power)

## C8051F383-GQ
designator U?
Full Speed USB Flash MCU Family, 48 MHz, 2.25 kB RAM, 32 kB Flash, -40 to 85 degC, 32-pin QFN; Manufacturer: Silicon Labs; PartNumber: C8051F383-GQ; ADC 1: 10-bit, 32-ch., 500 ksps; AEC-Q100: FALSE; Comparators: 2; Debug Interface: C2; Dig I/O Pins: 25; Flash: 32 kB; Internal Osc. Accuracy: +/-0.25%; MCU Core: 8051; MHz: 48; PCA Channels: 5; RAM: 2.25 KB; Temp Sensor: TRUE; Timers (16-bit): 6; Sub-Family: USB MCUs; DatasheetVersion: Rev. 1.3; PackageReference: LQFP-32; PackageDescription: 32-Pin Low-Profile Quad Flat Pack, Body 7 x 7 mm, Pitch 0.8 mm; Supplier 1: Digi-Key; Supplier Part Number 1: 336-2026-ND; Supplier 2: Mouser; Supplier Part Number 2: 634-C8051F383-GQ; Mounting Technology: Surface Mount; Code_JEDEC: MS-026; Code_IPC: J-STD-020; ComponentLink1Description: Manufacturer URL; ComponentLink1URL: http://www.silabs.com/; ComponentLink2Description: Datasheet; ComponentLink2URL: http://www.silabs.com/Support Documents/TechnicalDocs/C8051F38x.pdf; ComponentLink3Description: Package Specification; ComponentLink3URL: http://www.silabs.com/Support%20Documents/TechnicalDocs/C8051F38x.pdf
footprint SLAB-LQFP-32_N (QFP, 32-Leads, Body 7x7mm, Pitch 0.8mm, IPC Medium Density)
footprint SLAB-LQFP-32_L (QFP, 32-Leads, Body 7x7mm, Pitch 0.8mm, IPC High Density)
footprint SLAB-LQFP-32_M (QFP, 32-Leads, Body 7x7mm, Pitch 0.8mm, IPC Low Density)
pins: 1 P0.1 (io) "Port 0.1.", 2 P0.0 (io) "Port 0.0. See Section 20 for a complete description of Port 0.", 3 GND (power) "Ground.", 4 D+ (io) "USB D+.", 5 D- (io) "USB D-", 6 VDD (power) "2.7-3.6 V Core Supply Voltage Input. 3.3 V Voltage Regulator Output. See Section 5.", 7 REGIN (power) "5 V Regulator Input. This pin is the input to the on-chip  voltage regulator.", 8 VBUS (in) "VBUS Sense Input. This pin should be connected to the VBUS signal of a USB network. A 5 V signal on this pin indicates a USB network connection.", 9 ~{RST}/C2CK (io), 10 P3.0/C2D (io), 11 P2.7 (io) "Port 2.7.", 12 P2.6 (io) "Port 2.6.", 13 P2.5 (io) "Port 2.5.", 14 P2.4 (io) "Port 2.4.", 15 P2.3 (io) "Port 2.3.", 16 P2.2 (io) "Port 2.2.", 17 P2.1 (io) "Port 2.1.", 18 P2.0 (io) "Port 2.0. See Section 20 for a complete description of Port 2.", 19 P1.7 (io) "Port 1.7.", 20 P1.6 (io) "Port 1.6.", 21 P1.5 (io) "Port 1.5.", 22 P1.4 (io) "Port 1.4.", 23 P1.3 (io) "Port 1.3.", 24 P1.2 (io) "Port 1.2.", 25 P1.1 (io) "Port 1.1.", 26 P1.0 (io) "Port 1.0. See Section 20 for a complete description of Port 1.", 27 P0.7 (io) "Port 0.7.", 28 P0.6 (io) "Port 0.6.", 29 P0.5 (io) "Port 0.5.", 30 P0.4 (io) "Port 0.4.", 31 P0.3 (io) "Port 0.3.", 32 P0.2 (io) "Port 0.2."

## C8051F384-GQ
designator U?
Full Speed USB Flash MCU Family, 48 MHz, 4.25 kB RAM, 64 kB Flash, -40 to 85 degC, 48-pin QFP; Manufacturer: Silicon Labs; PartNumber: C8051F384-GQ; AEC-Q100: FALSE; Comparators: 2; Debug Interface: C2; Dig I/O Pins: 40; Flash: 64 kB; Internal Osc. Accuracy: +/-0.25%; MCU Core: 8051; MHz: 48; PCA Channels: 5; RAM: 4.25 KB; Timers (16-bit): 6; Sub-Family: USB MCUs; DatasheetVersion: Rev. 1.3; PackageReference: TQFP-48; PackageDescription: 48-pin TQFP, Body 7 x 7 mm, Pitch 0.5 mm; Supplier 1: Digi-Key; Supplier Part Number 1: 336-2027-ND; Supplier 2: Mouser; Supplier Part Number 2: 634-C8051F384-GQ; Temp Sensor: FALSE; Mounting Technology: Surface Mount; Code_JEDEC: MS-026; Code_IPC: J-STD-020; ComponentLink1Description: Manufacturer URL; ComponentLink1URL: http://www.silabs.com/; ComponentLink2Description: Datasheet; ComponentLink2URL: http://www.silabs.com/Support Documents/TechnicalDocs/C8051F38x.pdf; ComponentLink3Description: Package Specification; ComponentLink3URL: http://www.silabs.com/Support%20Documents/TechnicalDocs/CP2200.pdf
footprint SLAB-TQFP-48_N (QFP, 48-Leads, Body 7x7mm, Pitch 0.5mm, IPC Medium Density)
footprint SLAB-TQFP-48_L (QFP, 48-Leads, Body 7x7mm, Pitch 0.5mm, IPC High Density)
footprint SLAB-TQFP-48_M (QFP, 48-Leads, Body 7x7mm, Pitch 0.5mm, IPC Low Density)
pins: 1 P0.5 (io) "Port 0.5.", 2 P0.4 (io) "Port 0.4.", 3 P0.3 (io) "Port 0.3.", 4 P0.2 (io) "Port 0.2.", 5 P0.1 (io) "Port 0.1", 6 P0.0 (io) "Port 0.0.", 7 GND (power) "Ground.", 8 D+ (io) "USB D+.", 9 D- (io) "USB D-.", 10 VDD (power) "2.7-3.6 V Power Supply Voltage Input. 3.3 V Voltage Regulator Output.", 11 REGIN (power) "5 V Regulator Input. This pin is the input to the on-chip voltage regulator.", 12 VBUS (in) "VBUS Sense Input. This pin should be connected to the VBUS signal of a USB network. A 5 V signal on this pin indicates a USB network connection.", 13 ~{RST}/C2CK (io), 14 C2D (io) "Bi-directional data signal for the C2 Debug Interface.", 15 P4.7 (io) "Port 4.7.", 16 P4.6 (io) "Port 4.6.", 17 P4.5 (io) "Port 4.5.", 18 P4.4 (io) "Port 4.4.", 19 P4.3 (io) "Port 4.3.", 20 P4.2 (io) "Port 4.2.", 21 P4.1 (io) "Port 4.1.", 22 P4.0 (io) "Port 4.0.", 23 P3.7 (io) "Port 3.7.", 24 P3.6 (io) "Port 3.6.", 25 P3.5 (io) "Port 3.5.", 26 P3.4 (io) "Port 3.4.", 27 P3.3 (io) "Port 3.3.", 28 P3.2 (io) "Port 3.2.", 29 P3.1 (io) "Port 3.1.", 30 P3.0 (io) "Port 3.0.", 31 P2.7 (io) "Port 2.7.", 32 P2.6 (io) "Port 2.6.", 33 P2.5 (io) "Port 2.5.", 34 P2.4 (io) "Port 2.4.", 35 P2.3 (io) "Port 2.3.", 36 P2.2 (io) "Port 2.2.", 37 P2.1 (io) "Port 2.1.", 38 P2.0 (io) "Port 2.0.", 39 P1.7 (io) "Port 1.7.", 40 P1.6 (io) "Port 1.6.", 41 P1.5 (io) "Port 1.5.", 42 P1.4 (io) "Port 1.4.", 43 P1.3 (io) "Port 1.3.", 44 P1.2 (io) "Port 1.2.", 45 P1.1 (io) "Port 1.1.", 46 P1.0 (io) "Port 1.0.", 47 P0.7 (io) "Port 0.7.", 48 P0.6 (io) "Port 0.6."

## C8051F385-GM
designator U?
Full Speed USB Flash MCU Family, 48 MHz, 4.25 kB RAM, 64 kB Flash, -40 to 85 degC, 32-pin QFN; Manufacturer: Silicon Labs; PartNumber: C8051F385-GM; AEC-Q100: FALSE; Comparators: 2; Debug Interface: C2; Dig I/O Pins: 25; Flash: 64 kB; Internal Osc. Accuracy: +/-0.25%; MCU Core: 8051; MHz: 48; PCA Channels: 5; RAM: 4.25 KB; Timers (16-bit): 6; Sub-Family: USB MCUs; DatasheetVersion: Rev. 1.3; PackageReference: QFN-32; PackageDescription: 32-Pin Quad-Flat No-Leads Package, Body 5 x 5 mm, Pitch 0.5 mm; Supplier 1: Digi-Key; Supplier Part Number 1: 336-2028-ND; Supplier 2: Mouser; Supplier Part Number 2: 634-C8051F385-GM; Temp Sensor: FALSE; Mounting Technology: Surface Mount; Code_JEDEC: MO-220; Code_IPC: J-STD-020; ComponentLink1Description: Manufacturer URL; ComponentLink1URL: http://www.silabs.com/; ComponentLink2Description: Datasheet; ComponentLink2URL: http://www.silabs.com/Support Documents/TechnicalDocs/C8051F38x.pdf; ComponentLink3Description: Package Specification; ComponentLink3URL: http://www.silabs.com/Support%20Documents/TechnicalDocs/C8051F38x.pdf
footprint SLAB-QFN-32-3300x3300TP_A_N (QFN, 32-Leads, Body 5x5mm, Pitch 0.5mm, Thermal Pad 3.3x3.3mm, IPC Medium Density)
footprint SLAB-QFN-32-3300x3300TP_A_L (QFN, 32-Leads, Body 5x5mm, Pitch 0.5mm, Thermal Pad 3.3x3.3mm, IPC High Density)
footprint SLAB-QFN-32-3300x3300TP_A_M (QFN, 32-Leads, Body 5x5mm, Pitch 0.5mm, Thermal Pad 3.3x3.3mm, IPC Low Density)
pins: 1 P0.1 (io) "Port 0.1.", 2 P0.0 (io) "Port 0.0.", 3 GND (power) "Ground.", 4 D+ (io) "USB D+.", 5 D- (io) "USB D-", 6 VDD (power) "2.7-3.6 V Power Supply Voltage Input. 3.3 V Voltage Regulator Output.", 7 REGIN (power) "5 V Regulator Input. This pin is the input to the on-chip  voltage regulator.", 8 VBUS (in) "VBUS Sense Input. This pin should be connected to the VBUS signal of a USB network. A 5 V signal on this pin indicates a USB network connection.", 9 ~{RST}/C2CK (io), 10 P3.0/C2D (io), 11 P2.7 (io) "Port 2.7.", 12 P2.6 (io) "Port 2.6.", 13 P2.5 (io) "Port 2.5.", 14 P2.4 (io) "Port 2.4.", 15 P2.3 (io) "Port 2.3.", 16 P2.2 (io) "Port 2.2.", 17 P2.1 (io) "Port 2.1.", 18 P2.0 (io) "Port 2.0.", 19 P1.7 (io) "Port 1.7.", 20 P1.6 (io) "Port 1.6.", 21 P1.5 (io) "Port 1.5.", 22 P1.4 (io) "Port 1.4.", 23 P1.3 (io) "Port 1.3.", 24 P1.2 (io) "Port 1.2.", 25 P1.1 (io) "Port 1.1.", 26 P1.0 (io) "Port 1.0.", 27 P0.7 (io) "Port 0.7.", 28 P0.6 (io) "Port 0.6.", 29 P0.5 (io) "Port 0.5.", 30 P0.4 (io) "Port 0.4.", 31 P0.3 (io) "Port 0.3.", 32 P0.2 (io) "Port 0.2.", 33 GND (power)

## C8051F385-GQ
designator U?
Full Speed USB Flash MCU Family, 48 MHz, 4.25 kB RAM, 64 kB Flash, -40 to 85 degC, 32-pin QFN; Manufacturer: Silicon Labs; PartNumber: C8051F385-GQ; AEC-Q100: FALSE; Comparators: 2; Debug Interface: C2; Dig I/O Pins: 25; Flash: 64 kB; Internal Osc. Accuracy: +/-0.25%; MCU Core: 8051; MHz: 48; PCA Channels: 5; RAM: 4.25 KB; Timers (16-bit): 6; Sub-Family: USB MCUs; DatasheetVersion: Rev. 1.3; PackageReference: LQFP-32; PackageDescription: 32-Pin Low-Profile Quad Flat Pack, Body 7 x 7 mm, Pitch 0.8 mm; Supplier 1: Digi-Key; Supplier Part Number 1: 336-2029-ND; Supplier 2: Mouser; Supplier Part Number 2: 634-C8051F385-GQ; Temp Sensor: FALSE; Mounting Technology: Surface Mount; Code_JEDEC: MS-026; Code_IPC: J-STD-020; ComponentLink1Description: Manufacturer URL; ComponentLink1URL: http://www.silabs.com/; ComponentLink2Description: Datasheet; ComponentLink2URL: http://www.silabs.com/Support Documents/TechnicalDocs/C8051F38x.pdf; ComponentLink3Description: Package Specification; ComponentLink3URL: http://www.silabs.com/Support%20Documents/TechnicalDocs/C8051F38x.pdf
footprint SLAB-LQFP-32_N (QFP, 32-Leads, Body 7x7mm, Pitch 0.8mm, IPC Medium Density)
footprint SLAB-LQFP-32_L (QFP, 32-Leads, Body 7x7mm, Pitch 0.8mm, IPC High Density)
footprint SLAB-LQFP-32_M (QFP, 32-Leads, Body 7x7mm, Pitch 0.8mm, IPC Low Density)
pins: 1 P0.1 (io) "Port 0.1.", 2 P0.0 (io) "Port 0.0. See Section 20 for a complete description of Port 0.", 3 GND (power) "Ground.", 4 D+ (io) "USB D+.", 5 D- (io) "USB D-", 6 VDD (power) "2.7-3.6 V Core Supply Voltage Input. 3.3 V Voltage Regulator Output. See Section 5.", 7 REGIN (power) "5 V Regulator Input. This pin is the input to the on-chip  voltage regulator.", 8 VBUS (in) "VBUS Sense Input. This pin should be connected to the VBUS signal of a USB network. A 5 V signal on this pin indicates a USB network connection.", 9 ~{RST}/C2CK (io), 10 P3.0/C2D (io), 11 P2.7 (io) "Port 2.7.", 12 P2.6 (io) "Port 2.6.", 13 P2.5 (io) "Port 2.5.", 14 P2.4 (io) "Port 2.4.", 15 P2.3 (io) "Port 2.3.", 16 P2.2 (io) "Port 2.2.", 17 P2.1 (io) "Port 2.1.", 18 P2.0 (io) "Port 2.0. See Section 20 for a complete description of Port 2.", 19 P1.7 (io) "Port 1.7.", 20 P1.6 (io) "Port 1.6.", 21 P1.5 (io) "Port 1.5.", 22 P1.4 (io) "Port 1.4.", 23 P1.3 (io) "Port 1.3.", 24 P1.2 (io) "Port 1.2.", 25 P1.1 (io) "Port 1.1.", 26 P1.0 (io) "Port 1.0. See Section 20 for a complete description of Port 1.", 27 P0.7 (io) "Port 0.7.", 28 P0.6 (io) "Port 0.6.", 29 P0.5 (io) "Port 0.5.", 30 P0.4 (io) "Port 0.4.", 31 P0.3 (io) "Port 0.3.", 32 P0.2 (io) "Port 0.2."

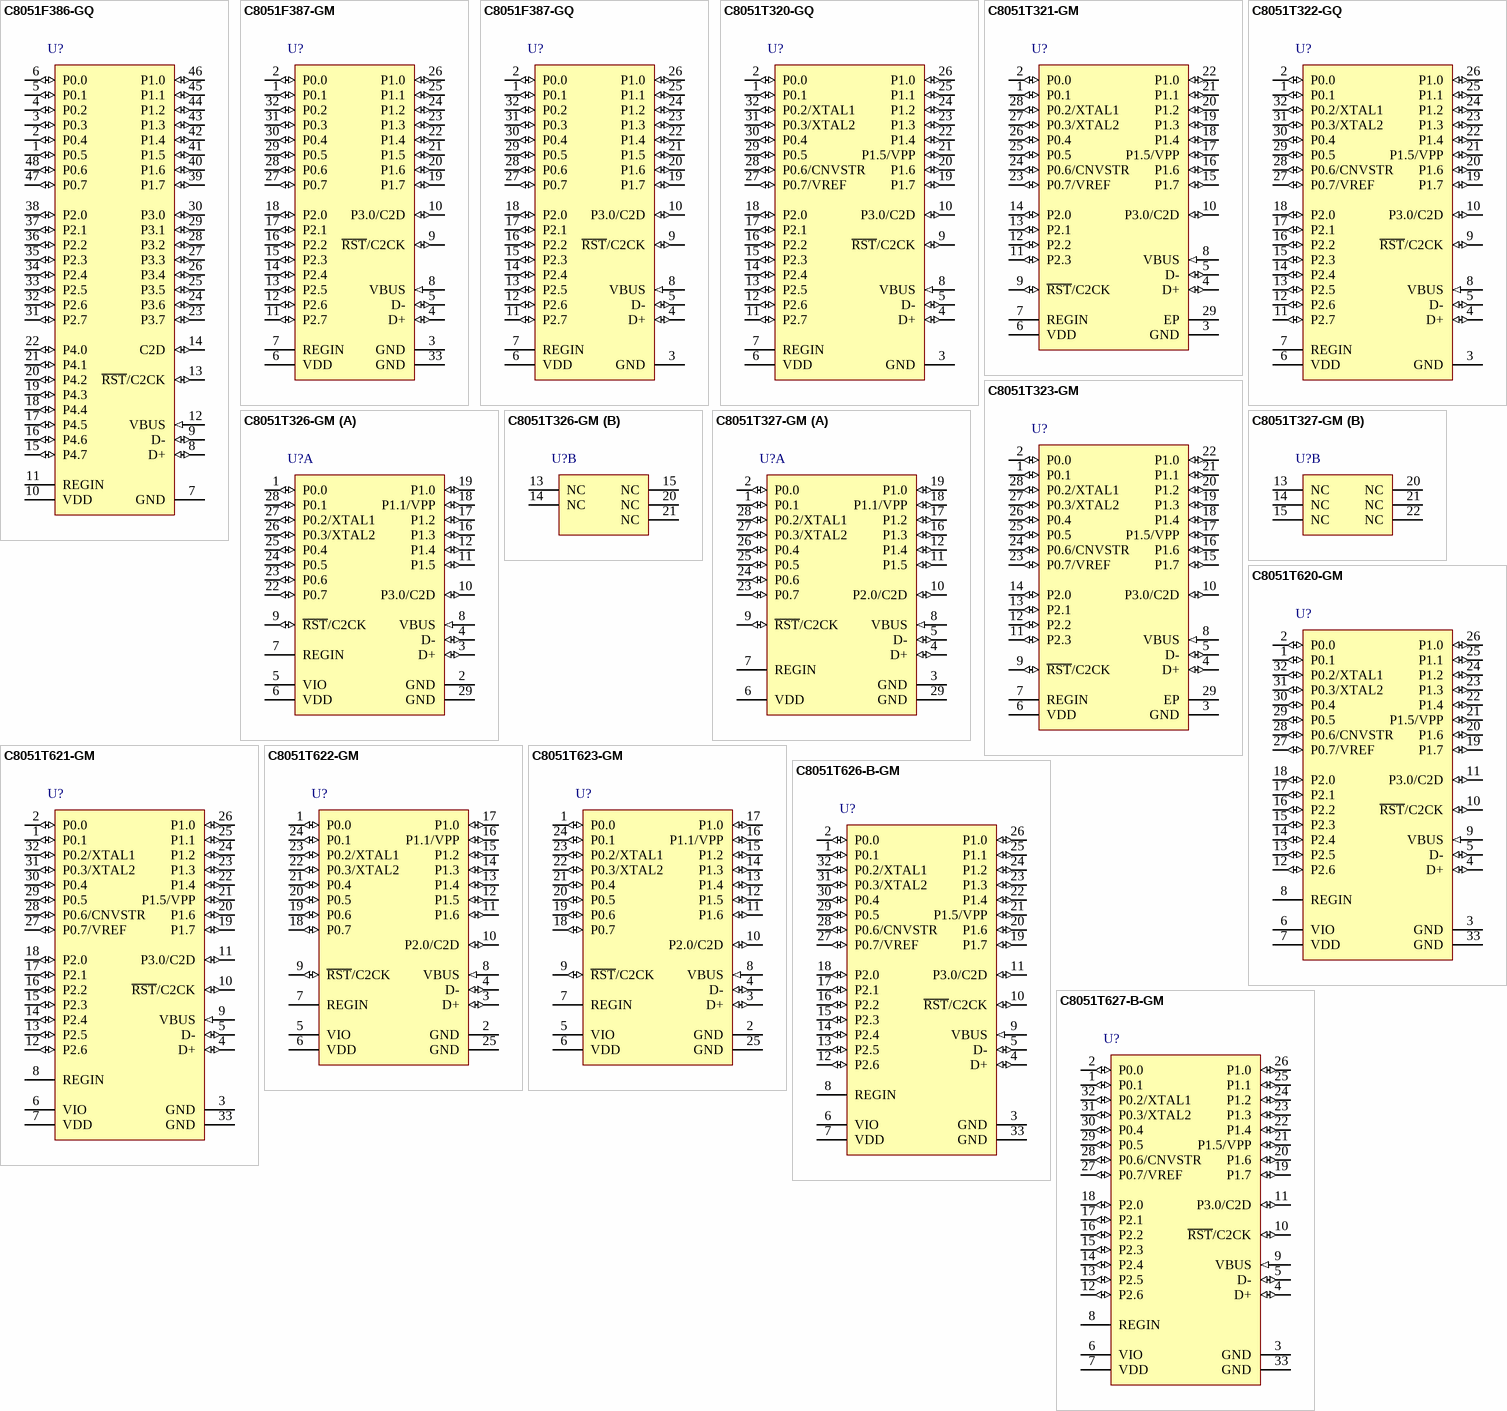
[diagram p2: symbols C8051F386-GQ to C8051T627-B-GM]

## C8051F386-GQ
designator U?
Full Speed USB Flash MCU Family, 48 MHz, 2.25 kB RAM, 32 kB Flash, -40 to 85 degC, 48-pin QFP; Manufacturer: Silicon Labs; PartNumber: C8051F386-GQ; AEC-Q100: FALSE; Comparators: 2; Debug Interface: C2; Dig I/O Pins: 40; Flash: 32 kB; Internal Osc. Accuracy: +/-0.25%; MCU Core: 8051; MHz: 48; PCA Channels: 5; RAM: 2.25 KB; Timers (16-bit): 6; Sub-Family: USB MCUs; DatasheetVersion: Rev. 1.3; PackageReference: TQFP-48; PackageDescription: 48-pin TQFP, Body 7 x 7 mm, Pitch 0.5 mm; Supplier 1: Digi-Key; Supplier Part Number 1: 336-2030-ND; Supplier 2: Mouser; Supplier Part Number 2: 634-C8051F386-GQ; Temp Sensor: FALSE; Mounting Technology: Surface Mount; Code_JEDEC: MS-026; Code_IPC: J-STD-020; ComponentLink1Description: Manufacturer URL; ComponentLink1URL: http://www.silabs.com/; ComponentLink2Description: Datasheet; ComponentLink2URL: http://www.silabs.com/Support Documents/TechnicalDocs/C8051F38x.pdf; ComponentLink3Description: Package Specification; ComponentLink3URL: http://www.silabs.com/Support%20Documents/TechnicalDocs/CP2200.pdf
footprint SLAB-TQFP-48_N (QFP, 48-Leads, Body 7x7mm, Pitch 0.5mm, IPC Medium Density)
footprint SLAB-TQFP-48_L (QFP, 48-Leads, Body 7x7mm, Pitch 0.5mm, IPC High Density)
footprint SLAB-TQFP-48_M (QFP, 48-Leads, Body 7x7mm, Pitch 0.5mm, IPC Low Density)
pins: 1 P0.5 (io) "Port 0.5.", 2 P0.4 (io) "Port 0.4.", 3 P0.3 (io) "Port 0.3.", 4 P0.2 (io) "Port 0.2.", 5 P0.1 (io) "Port 0.1", 6 P0.0 (io) "Port 0.0.", 7 GND (power) "Ground.", 8 D+ (io) "USB D+.", 9 D- (io) "USB D-.", 10 VDD (power) "2.7-3.6 V Power Supply Voltage Input. 3.3 V Voltage Regulator Output.", 11 REGIN (power) "5 V Regulator Input. This pin is the input to the on-chip voltage regulator.", 12 VBUS (in) "VBUS Sense Input. This pin should be connected to the VBUS signal of a USB network. A 5 V signal on this pin indicates a USB network connection.", 13 ~{RST}/C2CK (io), 14 C2D (io) "Bi-directional data signal for the C2 Debug Interface.", 15 P4.7 (io) "Port 4.7.", 16 P4.6 (io) "Port 4.6.", 17 P4.5 (io) "Port 4.5.", 18 P4.4 (io) "Port 4.4.", 19 P4.3 (io) "Port 4.3.", 20 P4.2 (io) "Port 4.2.", 21 P4.1 (io) "Port 4.1.", 22 P4.0 (io) "Port 4.0.", 23 P3.7 (io) "Port 3.7.", 24 P3.6 (io) "Port 3.6.", 25 P3.5 (io) "Port 3.5.", 26 P3.4 (io) "Port 3.4.", 27 P3.3 (io) "Port 3.3.", 28 P3.2 (io) "Port 3.2.", 29 P3.1 (io) "Port 3.1.", 30 P3.0 (io) "Port 3.0.", 31 P2.7 (io) "Port 2.7.", 32 P2.6 (io) "Port 2.6.", 33 P2.5 (io) "Port 2.5.", 34 P2.4 (io) "Port 2.4.", 35 P2.3 (io) "Port 2.3.", 36 P2.2 (io) "Port 2.2.", 37 P2.1 (io) "Port 2.1.", 38 P2.0 (io) "Port 2.0.", 39 P1.7 (io) "Port 1.7.", 40 P1.6 (io) "Port 1.6.", 41 P1.5 (io) "Port 1.5.", 42 P1.4 (io) "Port 1.4.", 43 P1.3 (io) "Port 1.3.", 44 P1.2 (io) "Port 1.2.", 45 P1.1 (io) "Port 1.1.", 46 P1.0 (io) "Port 1.0.", 47 P0.7 (io) "Port 0.7.", 48 P0.6 (io) "Port 0.6."

## C8051F387-GM
designator U?
Full Speed USB Flash MCU Family, 48 MHz, 2.25 kB RAM, 32 kB Flash, -40 to 85 degC, 32-pin QFN; Manufacturer: Silicon Labs; PartNumber: C8051F387-GM; AEC-Q100: FALSE; Comparators: 2; Debug Interface: C2; Dig I/O Pins: 25; Flash: 32 kB; Internal Osc. Accuracy: +/-0.25%; MCU Core: 8051; MHz: 48; PCA Channels: 5; RAM: 2.25 KB; Timers (16-bit): 6; Sub-Family: USB MCUs; DatasheetVersion: Rev. 1.3; PackageReference: QFN-32; PackageDescription: 32-Pin Quad-Flat No-Leads Package, Body 5 x 5 mm, Pitch 0.5 mm; Supplier 1: Digi-Key; Supplier Part Number 1: 336-2031-ND; Supplier 2: Mouser; Supplier Part Number 2: 634-C8051F387-GM; Temp Sensor: FALSE; Mounting Technology: Surface Mount; Code_JEDEC: MO-220; Code_IPC: J-STD-020; ComponentLink1Description: Manufacturer URL; ComponentLink1URL: http://www.silabs.com/; ComponentLink2Description: Datasheet; ComponentLink2URL: http://www.silabs.com/Support Documents/TechnicalDocs/C8051F38x.pdf; ComponentLink3Description: Package Specification; ComponentLink3URL: http://www.silabs.com/Support%20Documents/TechnicalDocs/C8051F38x.pdf
footprint SLAB-QFN-32-3300x3300TP_A_N (QFN, 32-Leads, Body 5x5mm, Pitch 0.5mm, Thermal Pad 3.3x3.3mm, IPC Medium Density)
footprint SLAB-QFN-32-3300x3300TP_A_L (QFN, 32-Leads, Body 5x5mm, Pitch 0.5mm, Thermal Pad 3.3x3.3mm, IPC High Density)
footprint SLAB-QFN-32-3300x3300TP_A_M (QFN, 32-Leads, Body 5x5mm, Pitch 0.5mm, Thermal Pad 3.3x3.3mm, IPC Low Density)
pins: 1 P0.1 (io) "Port 0.1.", 2 P0.0 (io) "Port 0.0.", 3 GND (power) "Ground.", 4 D+ (io) "USB D+.", 5 D- (io) "USB D-", 6 VDD (power) "2.7-3.6 V Power Supply Voltage Input. 3.3 V Voltage Regulator Output.", 7 REGIN (power) "5 V Regulator Input. This pin is the input to the on-chip  voltage regulator.", 8 VBUS (in) "VBUS Sense Input. This pin should be connected to the VBUS signal of a USB network. A 5 V signal on this pin indicates a USB network connection.", 9 ~{RST}/C2CK (io), 10 P3.0/C2D (io), 11 P2.7 (io) "Port 2.7.", 12 P2.6 (io) "Port 2.6.", 13 P2.5 (io) "Port 2.5.", 14 P2.4 (io) "Port 2.4.", 15 P2.3 (io) "Port 2.3.", 16 P2.2 (io) "Port 2.2.", 17 P2.1 (io) "Port 2.1.", 18 P2.0 (io) "Port 2.0.", 19 P1.7 (io) "Port 1.7.", 20 P1.6 (io) "Port 1.6.", 21 P1.5 (io) "Port 1.5.", 22 P1.4 (io) "Port 1.4.", 23 P1.3 (io) "Port 1.3.", 24 P1.2 (io) "Port 1.2.", 25 P1.1 (io) "Port 1.1.", 26 P1.0 (io) "Port 1.0.", 27 P0.7 (io) "Port 0.7.", 28 P0.6 (io) "Port 0.6.", 29 P0.5 (io) "Port 0.5.", 30 P0.4 (io) "Port 0.4.", 31 P0.3 (io) "Port 0.3.", 32 P0.2 (io) "Port 0.2.", 33 GND (power)